# Altium footprint library PolySomeCrypto01.PcbLib: 17 footprints (part 2 of 2)
Each footprint in its own frame and in the unit in brackets; x right, y up, seen from the top. Pads: shape width x height; smd on the part's side, far side on the other; paste and mask are expansions set on the pad; w line width, h text height; cw(c..) or ccw(c..) is an arc to the next point about the centre after c.
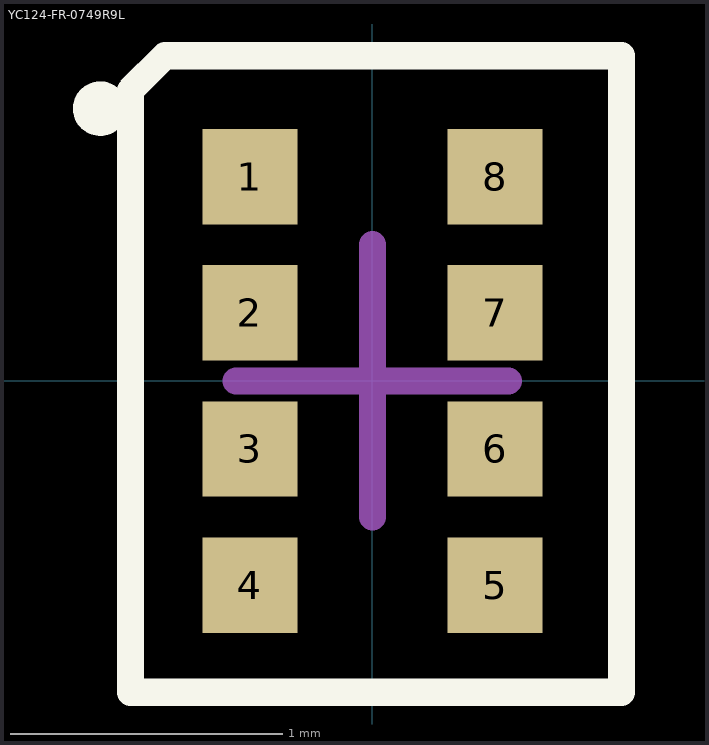
[diagram p1: the footprint, top view; thin cyan lines are the x and y axes]

## YC124-FR-0749R9L [mm] "Chip Array, Flat, 8-Leads, Pitch 0.50mm,  Body 2.00x1.00mm,  IPC Medium Density"
height 0.45
pads (8):
  rect 0.35x0.35 smd: 1(-0.45,0.75) 2(-0.45,0.25) 3(-0.45,-0.25) 4(-0.45,-0.75) 5(0.45,-0.75) 6(0.45,-0.25) 7(0.45,0.25) 8(0.45,0.75)
Top Overlay:
  circle w0.1: c-1,1 r0.05
  lines w0.1: -0.889,0.889 -0.889,1.067 ; -0.889,1.067 -0.762,1.194 0.914,1.194 0.914,-1.143 -0.889,-1.143 -0.889,1.067
Mechanical 15:
  lines w0.1: -0.5,0 0.5,0 ; 0,-0.5 0,0.5
3D body: height 0.45, standoff 0, extent -0.5,-1 0.5,1